# Altium footprint library SparkFun-Connectors.PCBLIB: 309 footprints (part 15 of 20)
Each footprint in its own frame and in the unit in brackets; x right, y up, seen from the top. Pads: shape width x height; smd on the part's side, far side on the other; paste and mask are expansions set on the pad; w line width, h text height; cw(c..) or ccw(c..) is an arc to the next point about the centre after c.
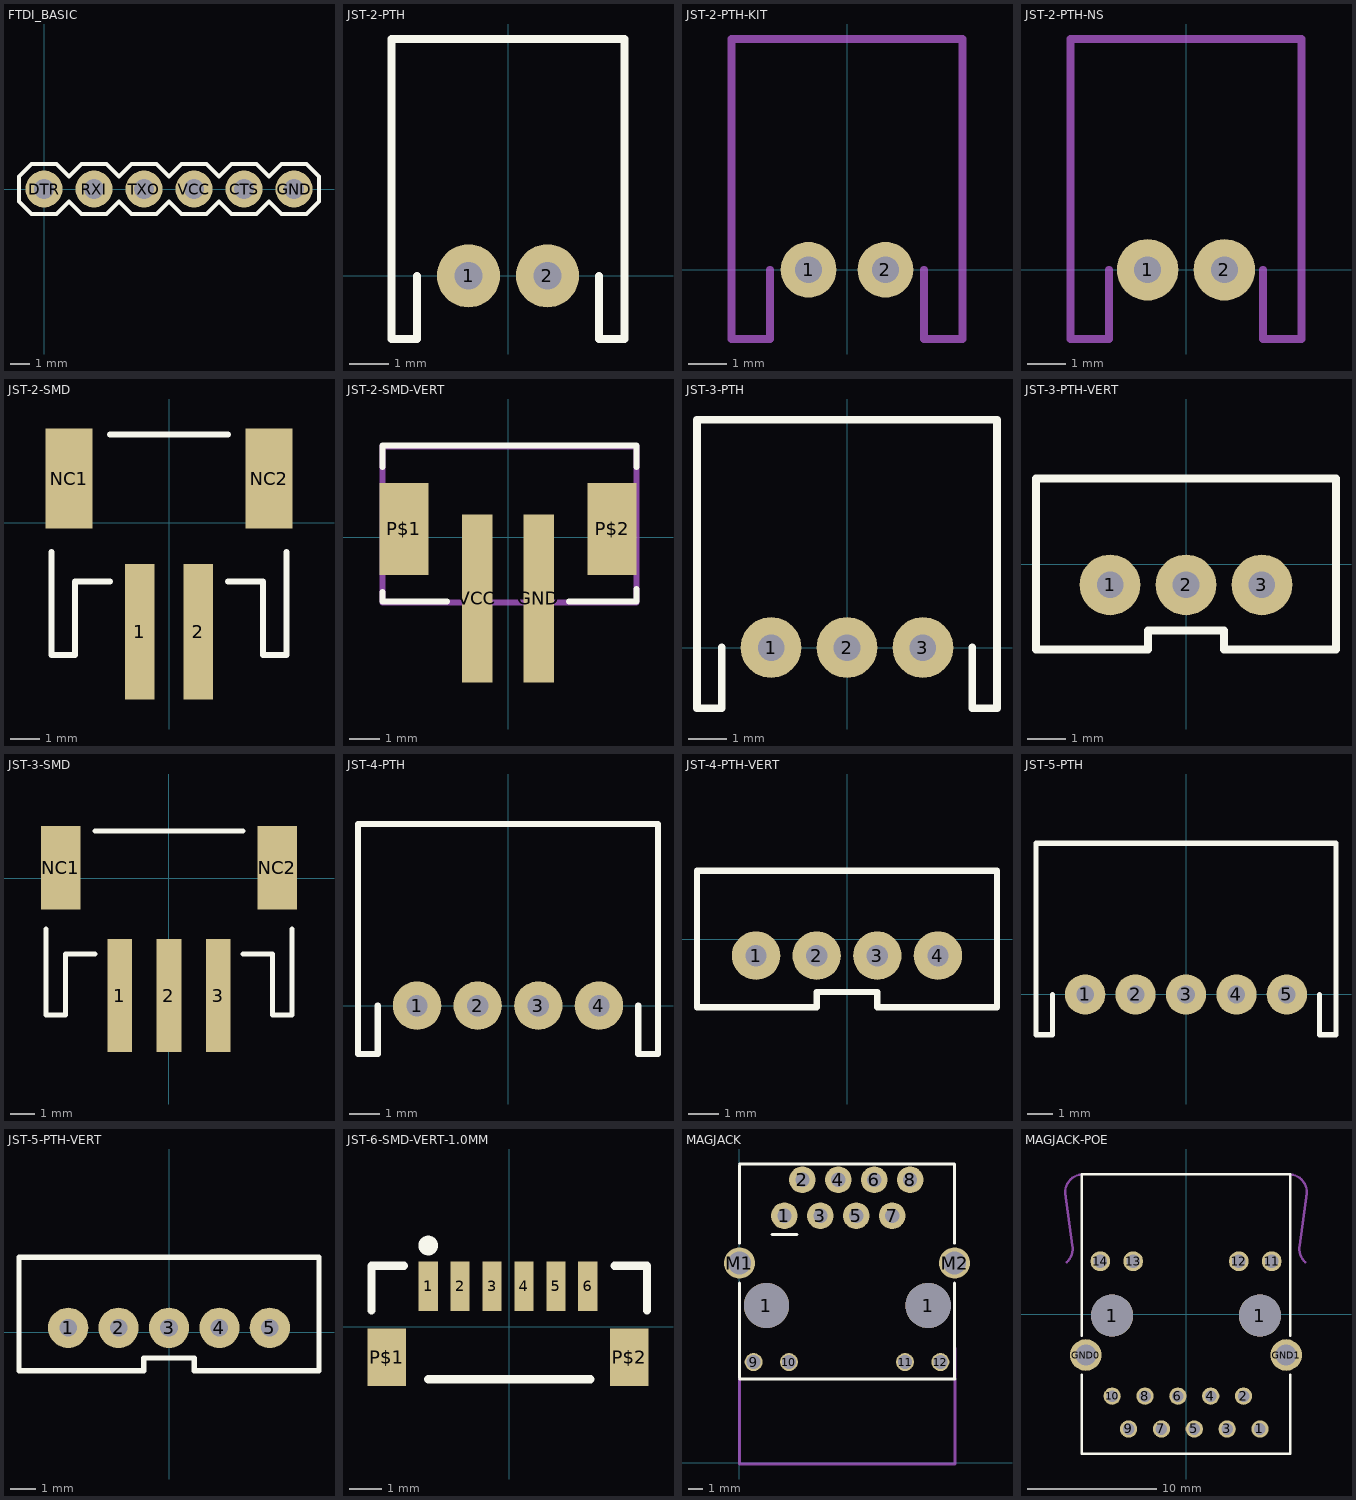
[diagram p14: the footprints below, top view; thin cyan lines are the x and y axes]

## FTDI_BASIC [mil]
pads (6):
  round 74 hole 40: CTS(400,0) DTR(0,0) GND(500,0) RXI(100,0) TXO(200,0) VCC(300,0)
Top Overlay:
  lines w8: -50,-25 -50,25 -25,50 25,50 50,25 75,50 125,50 150,25 175,50 225,50 250,25 275,50 325,50 350,25 375,50 425,50 450,25 475,50 525,50 550,25 550,-25 525,-50 475,-50 450,-25 425,-50 375,-50 350,-25 325,-50 275,-50 250,-25 225,-50 175,-50 150,-25 125,-50 75,-50 50,-25 25,-50 -25,-50 -50,-25
Mechanical 16:
  rectangle: 490,-10 510,10
  rectangle: 390,-10 410,10
  rectangle: 290,-10 310,10
  rectangle: 190,-10 210,10
  rectangle: 90,-10 110,10
  rectangle: -10,-10 10,10
  text "GRN" at 25,75 h42.5
  text "BLK" at 525,75 h42.5

## JST-2-PTH [mm]
pads (2):
  round 1.6 hole 0.7: 1(-1,0) 2(1,0)
Top Overlay:
  lines w0.203: -2.3,0 -2.3,-1.6 -2.95,-1.6 -2.95,6 2.95,6 2.95,-1.6 2.3,-1.6 2.3,0
Mechanical 16:
  text "+" at 0.6,0.7 h1.97
  text "-" at -1.4,0.7 h1.97

## JST-2-PTH-KIT [mil]
pads (2):
  round 57 hole 27.56: 1(-39.37,0) 2(39.37,0)
Top Solder:
  region: 0,0 10,0 10,10 0,10
  region: 0,0 10,0 10,10 0,10
Bottom Solder:
  region: 0,0 10,0 10,10 0,10
  region: 0,0 10,0 10,10 0,10
Mechanical 16:
  lines w8: -78.74,0 -78.74,-70.87 -118.11,-70.87 -118.11,236.22 118.11,236.22 118.11,-70.87 78.74,-70.87 78.74,0
  text "+" at 23.62,27.56 h77.5
  text "-" at -55.12,27.56 h77.5

## JST-2-PTH-NS [mm]
pads (2):
  round 1.6 hole 0.7: 1(-1,0) 2(1,0)
Mechanical 16:
  lines w0.203: -2,0 -2,-1.8 -3,-1.8 -3,6 3,6 3,-1.8 2,-1.8 2,0
  text "+" at 0.6,0.7 h1.97
  text "-" at -1.4,0.7 h1.97

## JST-2-SMD [mm]
pads (4):
  rect 1x4.6 smd: 1(-1,-3.7) 2(1,-3.7)
  rect 1.6x3.4 smd: NC1(-3.4,1.5) NC2(3.4,1.5)
Top Overlay:
  lines w0.203: -4,-1 -4,-4.5 -3.2,-4.5 -3.2,-2 -2,-2 ; -2,3 2,3 ; 2,-2 3.2,-2 3.2,-4.5 4,-4.5 4,-1

## JST-2-SMD-VERT [mm]
pads (4):
  rect 1x5.5 smd: GND(1,-2) VCC(-1,-2)
  rect 1.6x3 smd: P$1(-3.4,0.27) P$2(3.4,0.27)
Top Overlay:
  lines w0.203: -4.1,-1.8 -4.1,-2.1 -2,-2.1 ; -4.1,2.3 -4.1,3 4.2,3 4.2,2.3 ; 2,-2.1 4.2,-2.1 4.2,-1.7
Mechanical 16:
  lines w0.203: -4.1,-2.13 4.2,-2.13 4.2,2.97 -4.1,2.97 -4.1,-2.13

## JST-3-PTH [mm]
pads (3):
  round 1.6 hole 0.7: 1(-2,0) 2(0,0) 3(2,0)
Top Overlay:
  lines w0.203: -3.3,0 -3.3,-1.6 -3.95,-1.6 -3.95,6 3.95,6 3.95,-1.6 3.3,-1.6 3.3,0
Mechanical 16:
  text "+" at -2.4,0.67 h1.97
  text "-" at -0.4,0.67 h1.97
  text "S" at 1.7,0.87 h1.24

## JST-3-PTH-VERT [mm]
pads (3):
  round 1.6 hole 0.7: 1(-2,-0.55) 2(0,-0.55) 3(2,-0.55)
Top Overlay:
  lines w0.203: -3.95,-2.25 -3.95,2.25 3.95,2.25 3.95,-2.25 1,-2.25 1,-1.75 -1,-1.75 -1,-2.25 -3.95,-2.25
Mechanical 16:
  text "+" at -2.4,0.75 h1.97
  text "-" at -0.4,0.75 h1.97
  text "S" at 1.7,0.95 h1.24

## JST-3-SMD [mm]
pads (5):
  rect 1x4.6 smd: 1(-1.99,-4.77) 2(0.01,-4.77) 3(2.01,-4.77)
  rect 1.6x3.4 smd: NC1(-4.39,0.43) NC2(4.41,0.43)
Top Overlay:
  lines w0.203: -4.99,-2.07 -4.99,-5.57 -4.19,-5.57 -4.19,-3.07 -2.99,-3.07 ; -2.99,1.93 3.01,1.93 ; 3.01,-3.07 4.21,-3.07 4.21,-5.57 5.01,-5.57 5.01,-2.07

## JST-4-PTH [mm]
pads (4):
  round 1.6 hole 0.7: 1(-3,0) 2(-1,0) 3(1,0) 4(3,0)
Top Overlay:
  lines w0.203: -4.3,0 -4.3,-1.6 -4.95,-1.6 -4.95,6 4.95,6 4.95,-1.6 4.3,-1.6 4.3,0
Mechanical 16:
  text "+" at -3.4,0.7 h1.97
  text "-" at -1.4,0.7 h1.97
  text "S" at 0.7,0.9 h1.24
  text "S" at 2.7,0.9 h1.24

## JST-4-PTH-VERT [mm]
pads (4):
  round 1.6 hole 0.7: 1(-3,-0.55) 2(-1,-0.55) 3(1,-0.55) 4(3,-0.55)
Top Overlay:
  lines w0.203: -4.95,-2.25 -4.95,2.25 4.95,2.25 4.95,-2.25 1,-2.25 1,-1.75 -1,-1.75 -1,-2.25 -4.95,-2.25
Mechanical 16:
  text "+" at -1.4,0.75 h1.97
  text "-" at 0.6,0.75 h1.97
  text "Y" at 2.7,0.95 h1.24
  text "B" at -3.3,0.95 h1.24

## JST-5-PTH [mm]
pads (5):
  round 1.6 hole 0.7: 1(-4,0) 2(-2,0) 3(0,0) 4(2,0) 5(4,0)
Top Overlay:
  lines w0.203: -5.3,0 -5.3,-1.6 -5.95,-1.6 -5.95,6 5.95,6 5.95,-1.6 5.3,-1.6 5.3,0

## JST-5-PTH-VERT [mm]
pads (5):
  round 1.6 hole 0.7: 1(-4,0.18) 2(-2,0.18) 3(0,0.18) 4(2,0.18) 5(4,0.18)
Top Overlay:
  lines w0.203: -5.95,-1.52 -5.95,2.98 5.95,2.98 5.95,-1.52 1,-1.52 1,-1.02 -1,-1.02 -1,-1.52 -5.95,-1.52

## JST-6-SMD-VERT-1.0MM [mm]
pads (8):
  rect 0.6x1.55 smd: 1(-2.54,1.27) 2(-1.54,1.27) 3(-0.54,1.27) 4(0.46,1.27) 5(1.46,1.27) 6(2.46,1.27)
  rect 1.2x1.8 smd: P$1(-3.84,-0.955) P$2(3.76,-0.955)
Top Overlay:
  circle w0.406: c-2.54,2.54 r0.105
  lines w0.254: -4.318,0.508 -4.318,1.905 -3.302,1.905 ; -2.54,-1.651 2.54,-1.651 ; 3.302,1.905 4.318,1.905 4.318,0.508

## MAGJACK [mil]
pads (16):
  round 125.98 hole 125.98: 1(75,436.81) 1(525,436.81)
  round 74 hole 39.37: 1(125,686.81) 2(175,786.81) 3(225,686.81) 4(275,786.81) 5(325,686.81) 6(375,786.81) 7(425,686.81) 8(475,786.81)
  round 50 hole 39.37: 9(39.37,279.53) 10(137.8,279.53) 11(460.63,279.53) 12(559.06,279.53)
  round 86 hole 62.99: M1(0,555.12) M2(598.43,555.12)
Top Overlay:
  lines w8: 0,232.09 600,232.09 ; 0,236.22 0,500 ; 0,610.24 0,826.77 ; 0,830.51 596.06,830.51 ; 90,635 160,635 ; 598.43,232.28 598.43,500 ; 598.43,610.24 598.43,830.71
Bottom Overlay:
  lines w8: 90,635 160,635
Mechanical 16:
  lines w8: 0,318.7 0,-4.13 600,-4.13 600,318.7

## MAGJACK-POE [mm]
pads (18):
  round 3.25 hole 3.25: 1(-5.715,-0.12) 1(5.715,-0.12)
  round 1.335 hole 0.89: 1(5.72,-8.89) 2(4.45,-6.35) 3(3.18,-8.89) 4(1.91,-6.35) 5(0.64,-8.89) 6(-0.63,-6.35) 7(-1.9,-8.89) 8(-3.17,-6.35) 9(-4.44,-8.89) 10(-5.71,-6.35)
  round 1.53 hole 1.02: 11(6.625,4.08) 12(4.085,4.08) 13(-4.085,4.08) 14(-6.625,4.08)
  round 2.445 hole 1.63: GND0(-7.745,-3.17) GND1(7.745,-3.17)
Top Overlay:
  lines w0.178: -8.05,-4.7 -8.05,-10.8 8.05,-10.8 8.05,-4.7 ; -8.05,-1.7 -8.05,10.8 8.05,10.8 8.05,-1.7
Mechanical 16:
  lines w0.178: -9.24,3.98 ccw(c-10.179,5.044) -8.787,5.319 -9.34,9.31 cw(c-7.95,9.41) -8.05,10.8 ; 8.05,10.8 cw(c7.95,9.41) 9.34,9.31 8.787,5.319 ccw(c10.179,5.044) 9.24,3.98